# Altium integrated library ATTINY2313-20SUR.IntLib: 1 symbol
Pins are listed as number, name and electrical type; pins without a type are passive.

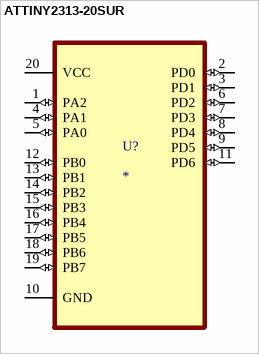
[diagram p0: symbol ATTINY2313-20SUR]

## ATTINY2313-20SUR
designator U?
AVR series Microcontroller IC 8-Bit 20MHz 2KB (1K x 16) FLASH 20-SOIC; MP: ATTINY2313-20SUR; MF: Microchip Technology; Check_prices: https://www.snapeda.com/parts/ATTINY2313-20SUR/Microchip/view-part/?ref=eda; Value: *; Availability: In Stock; Price: None; Package: SOIC-20 Microchip Technology; SnapEDA_Link: https://www.snapeda.com/parts/ATTINY2313-20SUR/Microchip/view-part/?ref=snap; Purchase-URL: https://pricing.snapeda.com/search/part/ATTINY2313-20SUR/?ref=eda
footprint SOIC127P1032X265-20N
pins: 1 PA2 (io), 2 PD0 (io), 3 PD1 (io), 4 PA1 (io), 5 PA0 (io), 6 PD2 (io), 7 PD3 (io), 8 PD4 (io), 9 PD5 (io), 10 GND, 11 PD6 (io), 12 PB0 (io), 13 PB1 (io), 14 PB2 (io), 15 PB3 (io), 16 PB4 (io), 17 PB5 (io), 18 PB6 (io), 19 PB7 (io), 20 VCC (power)